# Altium footprint library 2301996_2.PcbLib: 1 footprints
Each footprint in its own frame and in the unit in brackets; x right, y up, seen from the top. Pads: shape width x height; smd on the part's side, far side on the other; paste and mask are expansions set on the pad; w line width, h text height; cw(c..) or ccw(c..) is an arc to the next point about the centre after c.
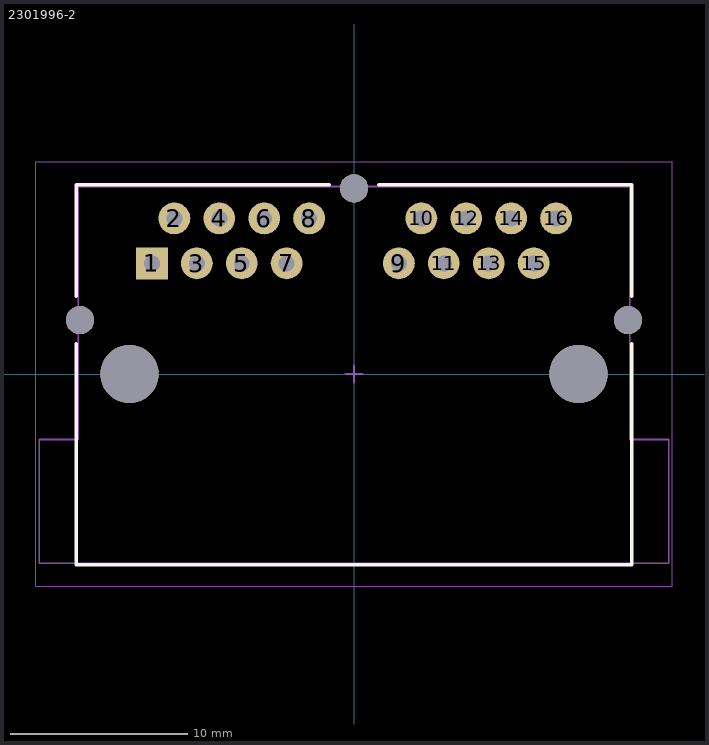
[diagram p0: the footprint, top view; thin cyan lines are the x and y axes]

## 2301996-2 [mm] "RJ45 with Integrated Magnetics x2, 10/100 Mbps, R/A Type"
height 13.5
pads (22):
  rect 1.8x1.8 hole 0.9 unplated: 1(-11.43,6.26)
  round 1.8 hole 0.9 unplated: 2(-10.16,8.8) 3(-8.89,6.26) 4(-7.62,8.8) 5(-6.35,6.26) 6(-5.08,8.8) 7(-3.81,6.26) 8(-2.54,8.8) 9(2.54,6.26) 10(3.81,8.8) 11(5.08,6.26) 12(6.35,8.8) 13(7.62,6.26) 14(8.89,8.8) 15(10.16,6.26) 16(11.43,8.8)
  round 1.6 hole 1.6 unplated: ""(-15.5,3.05) ""(0,10.5) ""(15.5,3.05) ""(15.5,3.05)
  round 3.3 hole 3.3 unplated: ""(-12.7,0) ""(12.7,0)
Top Overlay:
  lines w0.2: -15.7,1.7 -15.7,-10.8 15.7,-10.8 15.7,1.7 ; -15.7,4.4 -15.7,10.7 -1.4,10.7 ; 1.4,10.7 15.7,10.7 15.7,4.4
Top Comment:
  text ".Comment" at 0.9,12.2 h1.2
Top Designator:
  text ".Designator" at -0.4,12.2 h1.2
Top Component Outline:
  lines w0.1: -17.8,-10.7 17.8,-10.7 17.8,-3.7 15.6,-3.7 15.6,1.8 15.6,4.3 15.6,10.6 1.3,10.6 -1.3,10.6 -15.6,10.6 -15.6,4.3 -15.6,1.8 -15.6,-3.7 -17.8,-3.7 -17.8,-10.7
Top Courtyard (Mech15):
  lines w0.05: -18,-12 18,-12 18,12 -18,12 -18,-12
  lines w0.1: -0.5,0 0.5,0 ; 0,-0.5 0,0.5
3D body "2301996-2.STEP": height 15.66, standoff -3.75, extent -17.783,-10.75 17.783,10.6